# Altium footprint library STLINK_Header.PcbLib: 1 footprints
Each footprint in its own frame and in the unit in brackets; x right, y up, seen from the top. Pads: shape width x height; smd on the part's side, far side on the other; paste and mask are expansions set on the pad; w line width, h text height; cw(c..) or ccw(c..) is an arc to the next point about the centre after c.
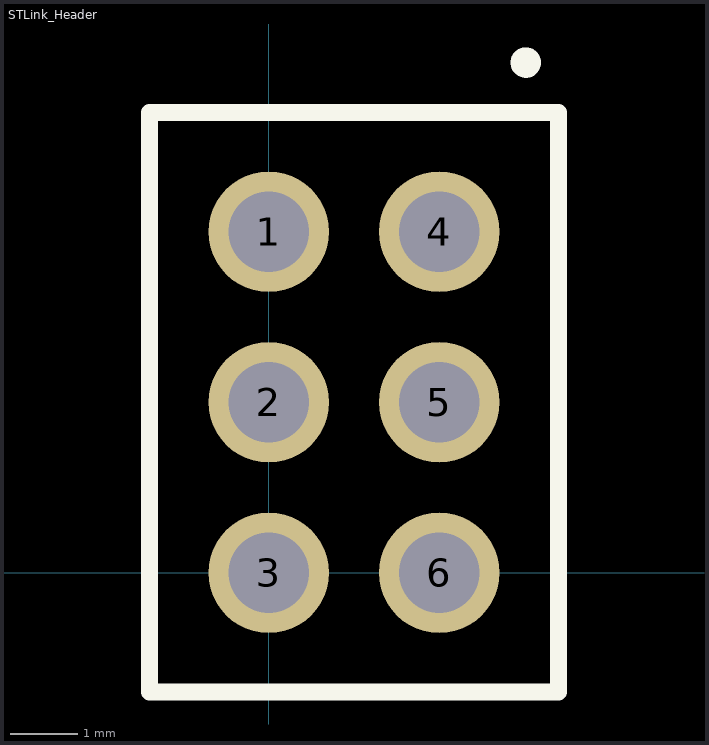
[diagram p0: the footprint, top view; thin cyan lines are the x and y axes]

## STLink_Header [mm]
pads (6):
  round 1.8 hole 1.2: 1(0,5.08) 2(0,2.54) 3(0,0) 4(2.54,5.08) 5(2.54,2.54) 6(2.54,0)
Top Overlay:
  circle w0.254: c3.829,7.601 r0.1
  lines w0.254: -1.778,-1.778 4.318,-1.778 4.318,6.858 -1.778,6.858 -1.778,-1.778